# Altium footprint library DO-214AA.PcbLib: 1 footprints
Each footprint in its own frame and in the unit in brackets; x right, y up, seen from the top. Pads: shape width x height; smd on the part's side, far side on the other; paste and mask are expansions set on the pad; w line width, h text height; cw(c..) or ccw(c..) is an arc to the next point about the centre after c.
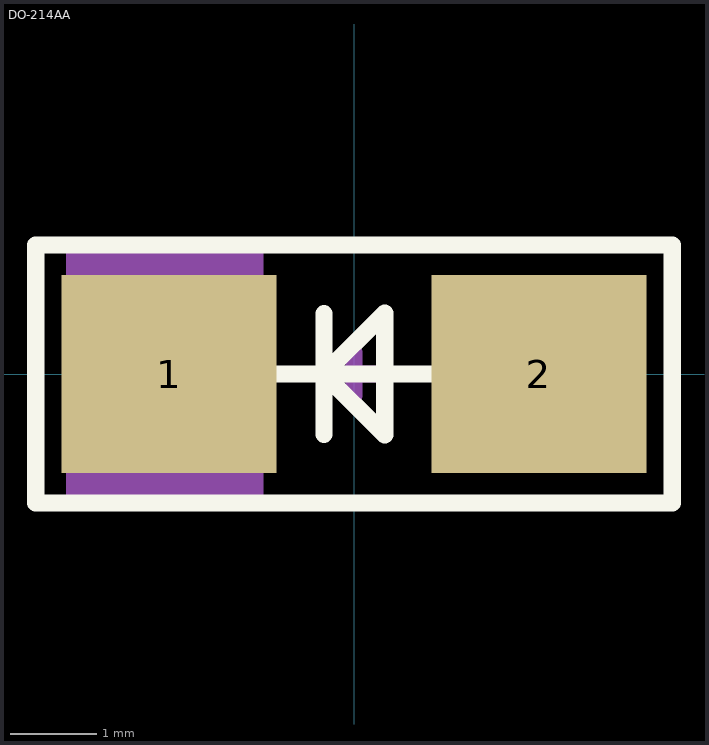
[diagram p0: the footprint, top view; thin cyan lines are the x and y axes]

## DO-214AA [mm]
height 0.9
pads (2):
  rect 2.5x2.3 smd: 1(-2.15,0) 2(2.15,0)
Top Overlay:
  lines w0.2: -0.95,0 -0.35,0 ; -0.35,-0.7 -0.35,0 ; -0.35,0.7 -0.35,0 ; 0.95,0 -0.35,0 ; -0.35,0 0.357,0.707 0.357,-0.707 -0.35,0 ; -3.7,-1.5 3.7,-1.5 3.7,1.5 -3.7,1.5 -3.7,-1.5
Top Assembly:
  rectangle: -3.3,-1.5 -1.05,1.5
  lines w0.1: -3.3,-1.5 3.7,-1.5 3.7,1.5 -3.3,1.5 -3.3,-1.5
  lines w0.2: -0.25,0 0.25,0 ; 0,-0.25 0,0.25
  text "'.Designator'" at 0,0 h0.7
3D body "B340B-13-F.stp": height 2.5, standoff 0, extent -2.648,-1.81 2.648,1.81